# EAGLE library part ALEX-PARTS_MCP4131 (library squareinator2)
MCP4131 single SPI digital pot 128-step 100K
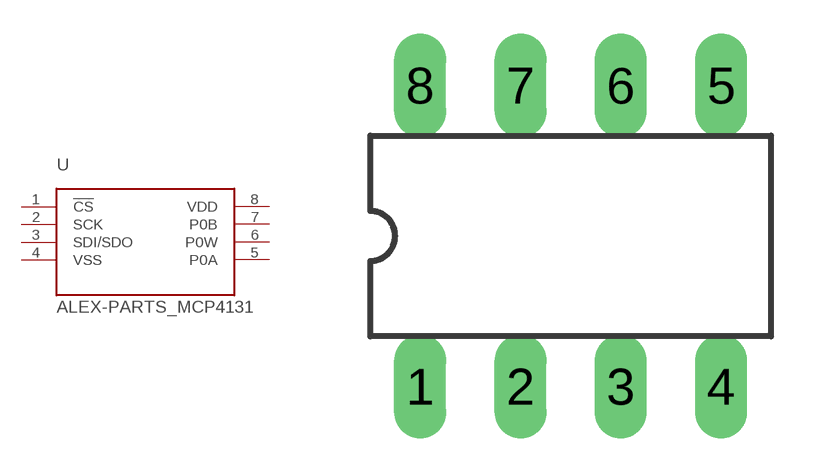
[diagram p1: symbol with the pads of ALEX-PARTS_DIL8; footprint ALEX-PARTS_DIL8]

Designator prefix -

## ALEX-PARTS_MCP4131  [ALEX-PARTS_DIL8]
1  !CS  in
2  SCK  in
3  SDI/SDO
4  VSS  pwr
5  P0A
6  P0W
7  P0B
8  VDD  pwr

## Footprint ALEX-PARTS_DIL8 (pad centres in mm)
Dual In Line package type P
drill 0.813 long: 1 -3.81,-3.81; 2 -1.27,-3.81; 3 1.27,-3.81; 4 3.81,-3.81; 5 3.81,3.81; 6 1.27,3.81; 7 -1.27,3.81; 8 -3.81,3.81